# Altium footprint library STM32F1+TMC2160_StepperMotorDriver.PcbLib: 1 footprints
Each footprint in its own frame and in the unit in brackets; x right, y up, seen from the top. Pads: shape width x height; smd on the part's side, far side on the other; paste and mask are expansions set on the pad; w line width, h text height; cw(c..) or ccw(c..) is an arc to the next point about the centre after c.
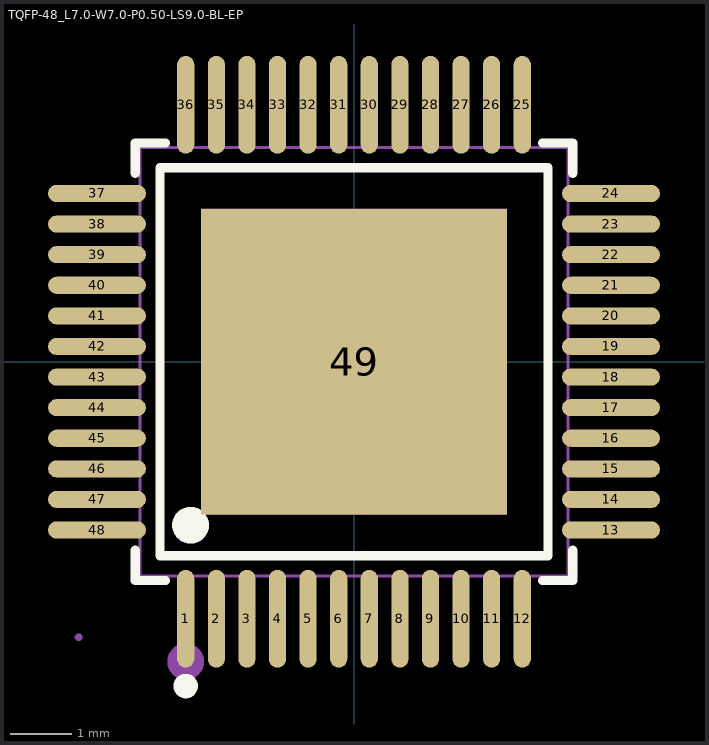
[diagram p0: the footprint, top view; thin cyan lines are the x and y axes]

## TQFP-48_L7.0-W7.0-P0.50-LS9.0-BL-EP [mm]
pads (49):
  oval 0.28x1.6 smd paste-100 mask+0.051: 1(-2.75,-4.2) 2(-2.25,-4.2) 3(-1.75,-4.2) 4(-1.25,-4.2) 5(-0.75,-4.2) 6(-0.25,-4.2) 7(0.25,-4.2) 8(0.75,-4.2) 9(1.25,-4.2) 10(1.75,-4.2) 11(2.25,-4.2) 12(2.75,-4.2) 25(2.75,4.2) 26(2.25,4.2) 27(1.75,4.2) 28(1.25,4.2) 29(0.75,4.2) 30(0.25,4.2) 31(-0.25,4.2) 32(-0.75,4.2) 33(-1.25,4.2) 34(-1.75,4.2) 35(-2.25,4.2) 36(-2.75,4.2)
  oval 1.6x0.28 smd paste-100 mask+0.051: 13(4.2,-2.75) 14(4.2,-2.25) 15(4.2,-1.75) 16(4.2,-1.25) 17(4.2,-0.75) 18(4.2,-0.25) 19(4.2,0.25) 20(4.2,0.75) 21(4.2,1.25) 22(4.2,1.75) 23(4.2,2.25) 24(4.2,2.75) 37(-4.2,2.75) 38(-4.2,2.25) 39(-4.2,1.75) 40(-4.2,1.25) 41(-4.2,0.75) 42(-4.2,0.25) 43(-4.2,-0.25) 44(-4.2,-0.75) 45(-4.2,-1.25) 46(-4.2,-1.75) 47(-4.2,-2.25) 48(-4.2,-2.75)
  rect 5x5 smd paste-100 mask+0.051: 49(0,0)
Top Overlay:
  circle w0.3: c-2.671,-2.671 r0.15
  circle w0.2: c-2.75,-5.3 r0.1
  lines w0.152: -3.576,-3.081 -3.576,-3.576 -3.081,-3.576 ; -3.576,3.081 -3.576,3.576 -3.081,3.576 ; 3.081,-3.576 3.576,-3.576 3.576,-3.081 ; 3.081,3.576 3.576,3.576 3.576,3.081 ; -3.171,-3.171 3.171,-3.171 3.171,3.171 -3.171,3.171 -3.171,-3.171
Top Paste:
  drawing of 49 lines, arcs and shapes, not listed
Mechanical 6:
  circle w0.3: c-2.75,-4.9 r0.15
Mechanical 15:
  drawing of 102 lines, arcs and shapes, not listed